# EAGLE library part SN74LVC8T245MPWREP (library U-TI-SN74LVC8T245MPWREP-8bit-TRX)
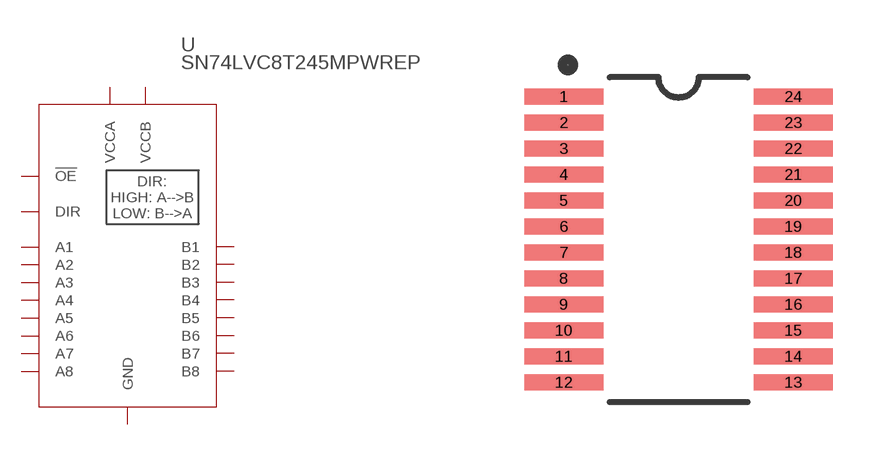
[diagram p0: symbol with the pads of PW24-M; footprint PW24-M]

Designator prefix U

## SN74LVC8T245MPWREPPW24-M (MANUFACTURER_PART_NUMBER: SN74LVC8T245MPWREP; VENDOR: Texas Instruments)  [PW24-M]
1  VCCA  pwr
2  DIR  in
3  A1
4  A2
5  A3
6  A4
7  A5
8  A6
9  A7
10  A8
11  GND  pwr
12  GND  pwr
13  GND  pwr
14  B8
15  B7
16  B6
17  B5
18  B4
19  B3
20  B2
21  B1
22  !OE  in
23  VCCB  pwr
24  VCCB  pwr

## Footprint PW24-M (pad centres in mm)
smd 1.981 x 0.406: 1 -2.87,3.575; 2 -2.87,2.925; 3 -2.87,2.275; 4 -2.87,1.625; 5 -2.87,0.975; 6 -2.87,0.325; 7 -2.87,-0.325; 8 -2.87,-0.975; 9 -2.87,-1.625; 10 -2.87,-2.275; 11 -2.87,-2.925; 12 -2.87,-3.575; 13 2.87,-3.575; 14 2.87,-2.925; 15 2.87,-2.275; 16 2.87,-1.625; 17 2.87,-0.975; 18 2.87,-0.325; 19 2.87,0.325; 20 2.87,0.975; 21 2.87,1.625; 22 2.87,2.275; 23 2.87,2.925; 24 2.87,3.575